# Altium footprint library 691 253 400 0xx.PcbLib: 2 footprints
Each footprint in its own frame and in the unit in brackets; x right, y up, seen from the top. Pads: shape width x height; smd on the part's side, far side on the other; paste and mask are expansions set on the pad; w line width, h text height; cw(c..) or ccw(c..) is an arc to the next point about the centre after c.
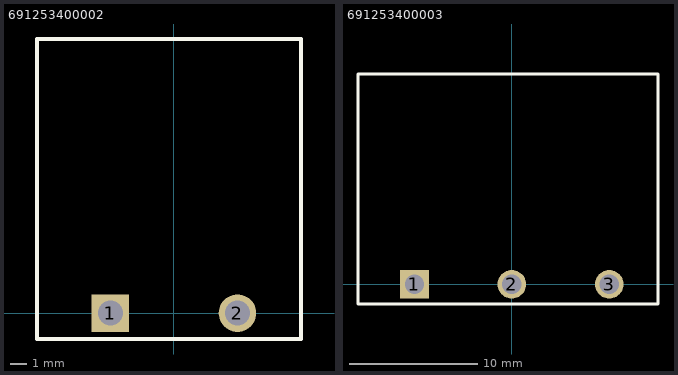
[diagram p0: the footprints below, top view; thin cyan lines are the x and y axes]

## 691253400002 [mm] "Serie 2534 - 7.62 mm _ 2 pins"
height 11.2
pads (2):
  rect 2.25x2.25 hole 1.5: 1(-3.81,0)
  round 2.25 hole 1.5: 2(3.81,0)
Top Overlay:
  lines w0.254: -8.22,-1.55 7.62,-1.55 7.62,16.45 -8.22,16.45 -8.22,-1.55
3D body: height 11.3, standoff -3.9, extent -8.24,-1.6 7.6,16.4

## 691253400003 [mm] "Serie 2534 - 7.62 mm _ 3 pins"
height 11.2
pads (3):
  rect 2.25x2.25 hole 1.5: 1(-7.62,0)
  round 2.25 hole 1.5: 2(0,0) 3(7.62,0)
Top Overlay:
  lines w0.254: -12.03,-1.55 -12.03,16.45 11.43,16.45 11.43,-1.55 -12.03,-1.55
3D body: height 11.3, standoff -3.9, extent -12,-1.5 11.46,16.5